# EAGLE library part LRMS-30J (library ic)
LRMS-30J: 7dBm-Mixer (Mini-Circuits) 200-3000MHz LO/RF, DC-1GHz IF
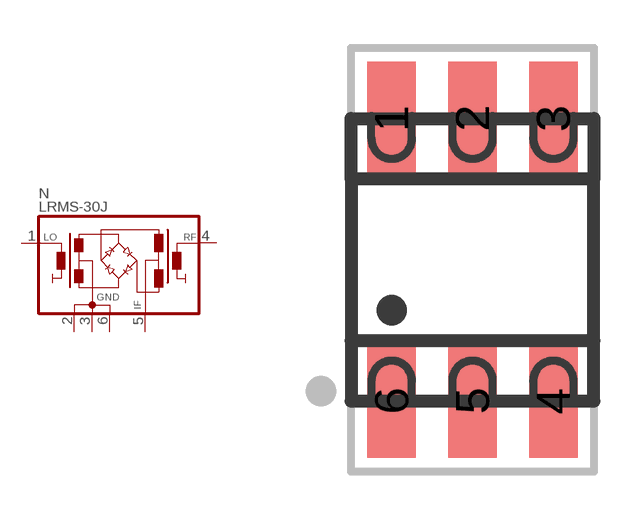
[diagram p67: symbol with the pads of MC-QQQ569; footprint MC-QQQ569]

Designator prefix N

## LRMS-30J  [MC-QQQ569]
1  LO
2  GND
3  GND
4  RF
5  IF
6  GND

## Footprint MC-QQQ569 (pad centres in mm)
Mini-Circuits QQQ569 SMD plastic case (8*5.5mm), 6 pins Pin 6 is marked with a dot!
smd 1.524 x 3.556: 1 -2.54,4.445; 2 0,4.445; 3 2.54,4.445; 4 2.54,-4.445; 5 0,-4.445; 6 -2.54,-4.445